# Altium schematic symbol library ATMEGA32U4-AU.Schlib: 1 symbol
Pins are listed as number, name and electrical type; pins without a type are passive.

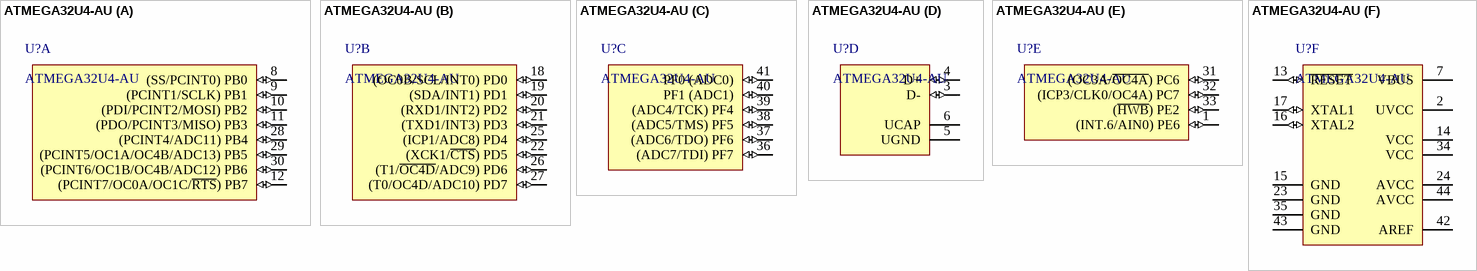
[diagram p0: symbol ATMEGA32U4-AU]

## ATMEGA32U4-AU
designator U?
IC MCU 8BIT 32KB FLASH 44TQFP
part A pins: 8 (SS/PCINT0) PB0 (io), 9 (PCINT1/SCLK) PB1 (io), 10 (PDI/PCINT2/MOSI) PB2 (io), 11 (PDO/PCINT3/MISO) PB3 (io), 12 (PCINT7/OC0A/OC1C/~{RTS}) PB7 (io), 28 (PCINT4/ADC11) PB4 (io), 29 (PCINT5/OC1A/OC4B/ADC13) PB5 (io), 30 (PCINT6/OC1B/OC4B/ADC12) PB6 (io)
part B pins: 18 (OC0B/SCL/INT0) PD0 (io), 19 (SDA/INT1) PD1 (io), 20 (RXD1/INT2) PD2 (io), 21 (TXD1/INT3) PD3 (io), 22 (XCK1/~{CTS}) PD5 (io), 25 (ICP1/ADC8) PD4 (io), 26 (T1/~{OC4D}/ADC9) PD6 (io), 27 (T0/OC4D/ADC10) PD7 (io)
part C pins: 36 (ADC7/TDI) PF7 (io), 37 (ADC6/TDO) PF6 (io), 38 (ADC5/TMS) PF5 (io), 39 (ADC4/TCK) PF4 (io), 40 PF1 (ADC1) (io), 41 PF0 (ADC0) (io)
part D pins: 3 D- (io), 4 D+ (io), 5 UGND (power), 6 UCAP
part E pins: 1 (INT.6/AIN0) PE6 (io), 31 (OC3A/~{OC4A}) PC6 (io), 32 (ICP3/CLK0/OC4A) PC7 (io), 33 (~{HWB}) PE2 (io)
part F pins: 2 UVCC (power), 7 VBUS (power), 13 ~{RESET} (io), 14 VCC (power), 15 GND (power), 16 XTAL2 (io), 17 XTAL1 (io), 23 GND (power), 24 AVCC (power), 34 VCC (power), 35 GND (power), 42 AREF (power), 43 GND (power), 44 AVCC (power)